# Altium footprint library Board.PcbLib: 17 footprints (part 1 of 2)
Each footprint in its own frame and in the unit in brackets; x right, y up, seen from the top. Pads: shape width x height; smd on the part's side, far side on the other; paste and mask are expansions set on the pad; w line width, h text height; cw(c..) or ccw(c..) is an arc to the next point about the centre after c.
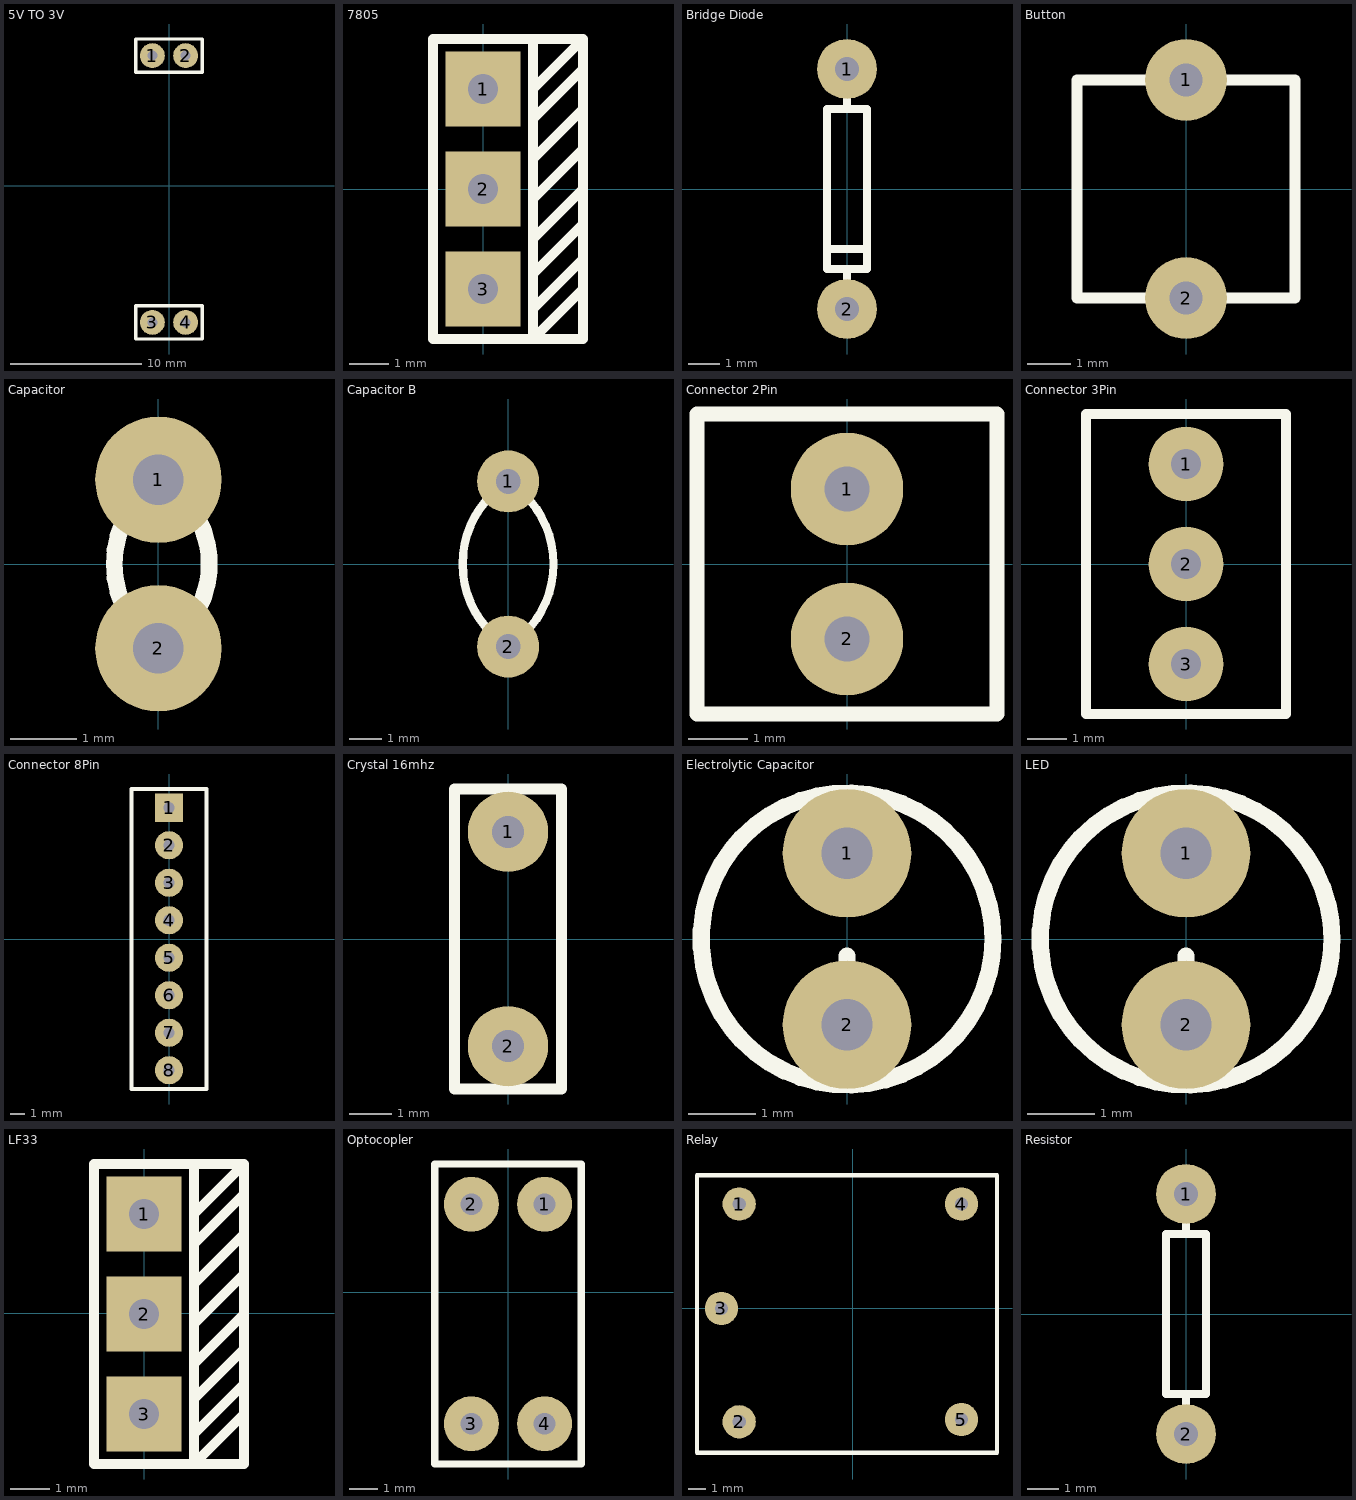
[diagram p0: the footprints below, top view; thin cyan lines are the x and y axes]

## 5V TO 3V [mil]
pads (4):
  round 75 hole 30: 1(-50,390) 2(50,390) 3(-50,-410) 4(50,-410)
Top Overlay:
  lines w10: -100,-460 100,-460 100,-360 -100,-360 -100,-460 ; -100,340 -100,440 100,440 100,340 -100,340

## 7805 [mil]
pads (3):
  rect 75x75 hole 30 square: 1(0,100) 2(0,0) 3(0,-100)
Top Overlay:
  lines w10: 50,100 55,105 100,150 ; -50,150 -50,-150 100,-150 100,150 ; -50,150 100,150 ; -50,150 50,150 50,-150 100,-100 100,-70 50,-120 50,-85 100,-35 100,-10 100,0 50,-50 50,-10 100,40 100,75 100,80 50,30 50,70 100,120 100,150

## Bridge Diode [mil]
pads (2):
  round 75 hole 30: 1(0,150) 2(0,-150)
Top Overlay:
  lines w10: -25,-75 20,-75 ; 0,150 0,100 ; 0,-100 -25,-100 -25,100 0,100 ; 0,-100 0,-150 0,-100 ; 0,-100 25,-100 25,100 0,100

## Button [mil]
pads (2):
  round 75 hole 30: 1(0,100) 2(0,-100)
Top Overlay:
  lines w10: -100,-100 100,-100 100,100 0,100 -100,100 -100,-100

## Capacitor [mil]
pads (2):
  round 75 hole 30: 1(0,50) 2(0,-50)
Top Overlay:
  lines w10: 0,-50 cw(c34.49,0) 0,50 cw(c-26.25,0) 0,-50

## Capacitor B [mil]
pads (2):
  round 75 hole 30: 1(0,100) 2(0,-100)
Top Overlay:
  lines w10: 0,-100 cw(c63.18,0) 0,100 cw(c-63.41,0) 0,-100

## Connector 2Pin [mil]
pads (2):
  round 75 hole 30: 1(0,50) 2(0,-50)
Top Overlay:
  lines w10: -100,-100 100,-100 100,100 -100,100 -100,-100

## Connector 3Pin [mil]
pads (3):
  round 75 hole 30: 1(0,100) 2(0,0) 3(0,-100)
Top Overlay:
  lines w10: -100,-150 -100,150 100,150 100,-150 -100,-150

## Connector 8Pin [mil]
pads (8):
  rect 75x75 hole 30 square: 1(0,350)
  round 75 hole 30: 2(0,250) 3(0,150) 4(0,50) 5(0,-50) 6(0,-150) 7(0,-250) 8(0,-350)
Top Overlay:
  lines w10: -100,-400 100,-400 100,400 -100,400 -100,-400

## Crystal 16mhz [mil]
pads (2):
  round 75 hole 30: 1(0,100) 2(0,-100)
Top Overlay:
  lines w10: -50,-140 50,-140 50,140 0,140 -50,140 -50,-140

## Electrolytic Capacitor [mil]
pads (2):
  round 75 hole 30: 1(0,50) 2(0,-50)
Top Overlay:
  circle w10: c0,0 r85.15
  lines w10: -15,-25 15,-25 ; 0,-40 0,-10

## LED [mil]
pads (2):
  round 75 hole 30: 1(0,50) 2(0,-50)
Top Overlay:
  circle w10: c0,0 r85.15
  lines w10: -15,-25 15,-25 ; 0,-40 0,-10

## LF33 [mil]
pads (3):
  rect 75x75 hole 30 square: 1(-0.45,99.35) 2(-0.45,-0.65) 3(-0.45,-100.65)
Top Overlay:
  lines w10: 49.55,99.35 54.55,104.35 99.55,149.35 ; -50.45,149.35 49.55,149.35 49.55,-150.65 99.55,-100.65 99.55,-70.65 49.55,-120.65 49.55,-85.65 99.55,-35.65 99.55,-10.65 99.55,-0.65 49.55,-50.65 49.55,-10.65 99.55,39.35 99.55,74.35 99.55,79.35 49.55,29.35 49.55,69.35 99.55,119.35 99.55,149.35 ; -50.45,149.35 99.55,149.35 ; -50.45,149.35 -50.45,-150.65 99.55,-150.65 99.55,149.35

## Optocopler [mil]
pads (4):
  round 75 hole 30: 1(50,120) 2(-50,120) 3(-50,-180) 4(50,-180)
Top Overlay:
  lines w10: -100,-235 -100,175 100,175 100,-235 -100,-235

## Relay [mil]
pads (5):
  round 75 hole 30: 1(-255,235) 2(-255,-255) 3(-295,0) 4(245,235) 5(245,-250)
Top Overlay:
  lines w10: -350,-325 325,-325 325,300 -350,300 -350,-325

## Resistor [mil]
pads (2):
  round 75 hole 30: 1(0,150) 2(0,-150)
Top Overlay:
  lines w10: 0,150 0,100 ; 0,-100 -25,-100 -25,100 0,100 ; 0,-100 0,-150 0,-100 ; 0,-100 25,-100 25,100 0,100